# EAGLE library part CONN_08 (library CougsInSpace)
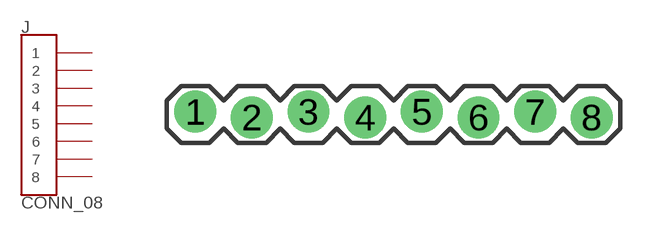
[diagram p38: symbol with the pads of 1X08_LOCK; footprint 1X08_LOCK]

Designator prefix J

## CONN_08TH-LOCK  [1X08_LOCK]
1  1
2  2
3  3
4  4
5  5
6  6
7  7
8  8

## Footprint 1X08_LOCK (pad centres in mm)
Plated Through Hole - 6 Pin with Locking Footprint Holes are offset 0.005" from center, locking pins in place during soldering. Specifications: Pin count:6 Pin pitch:0.1" Example device(s): CONN_06
drill 1.016 pad 1.88: 1 0,0; 2 2.54,-0.254; 3 5.08,0; 4 7.62,-0.254; 5 10.16,0; 6 12.7,-0.254; 7 15.24,0; 8 17.78,-0.254